# Altium schematic symbol library pwr_switching_boost.SchLib: 16 symbols
Pins are listed as number, name and electrical type; pins without a type are passive.

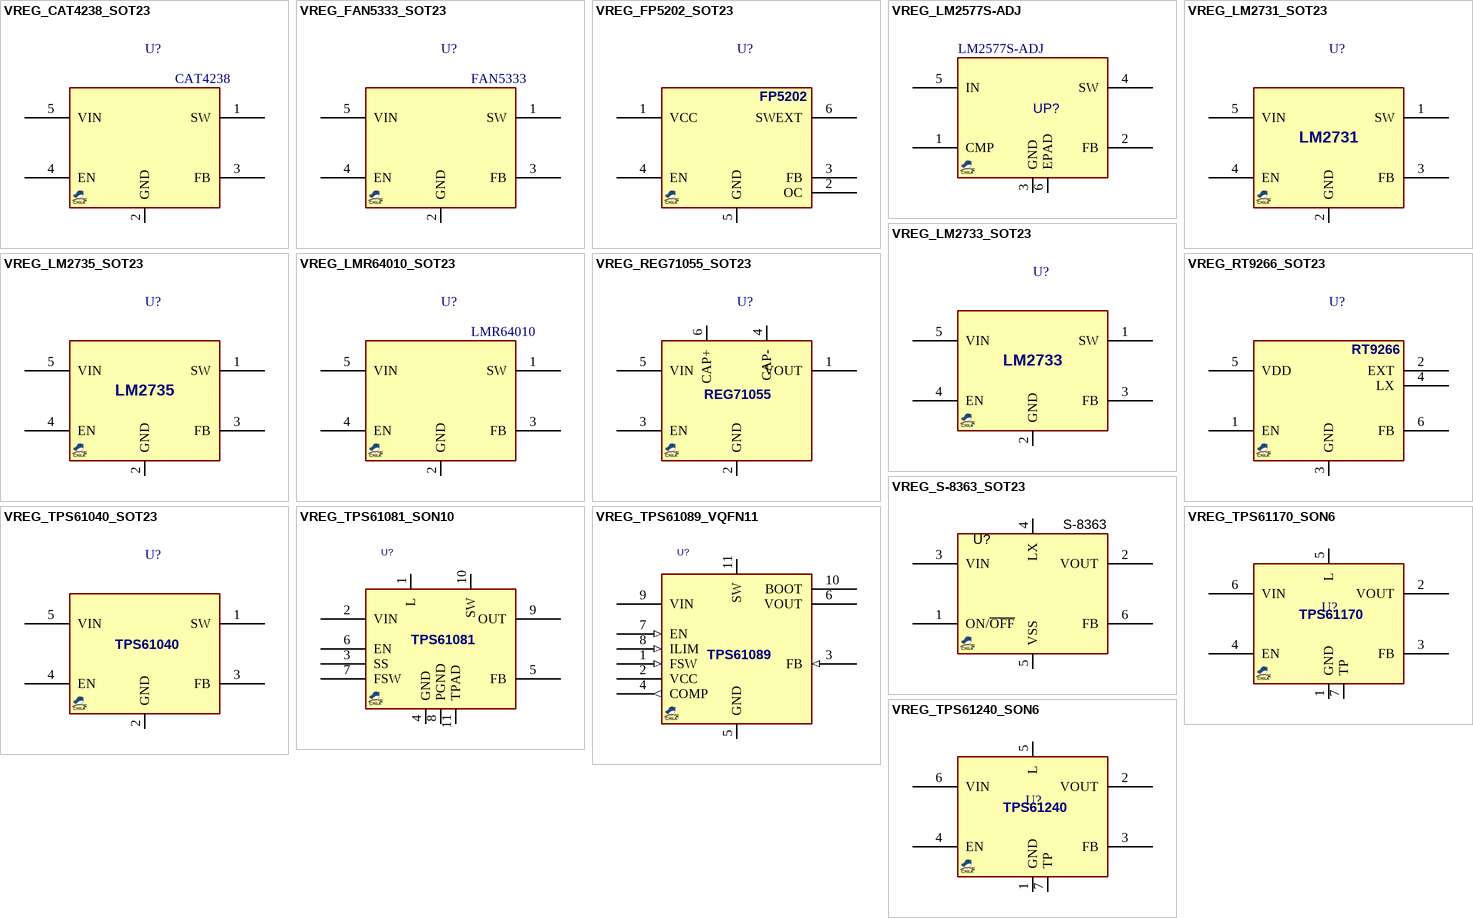
[diagram p0: symbols VREG_CAT4238_SOT23 to VREG_TPS61240_SON6]

## VREG_CAT4238_SOT23
designator U?, comment CAT4238
REG, Switching, Boost, 0.04A, ADJ, 1MHz, SOT-23-5; MANF_P#: CAT4238TD; MANF: ON; PARAM: 0.04A, ADJ; PARAM2: 1MHz; VALUE: CAT4238
footprint SOT23_5 (SOT-23-5, SOT25, SOT-25, DBV(R-PDSO-G5), TSOT23-5, SC-74A, SOT23-5, S5-T (LINEAR), MO-178AA, MO-193AB(JEDEC), MF05A (NS), TSOP-6(ON), UJ-5 (AD))
pins: 1 SW (hiz), 2 GND (hiz), 3 FB (hiz), 4 EN (hiz), 5 VIN (hiz)

## VREG_FAN5333_SOT23
designator U?, comment FAN5333
REG, Switching, Boost, 1A, ADJ, 1.8MHz, SOT-23-5; PARAM: 1A, ADJ; MANF: FAIRCHILD; PARAM2: 1.8MHz; MANF_P#: FAN5333; VALUE: FAN5333
footprint SOT23_5 (SOT-23-5, SOT25, SOT-25, DBV(R-PDSO-G5), TSOT23-5, SC-74A, SOT23-5, S5-T (LINEAR), MO-178AA, MO-193AB(JEDEC), MF05A (NS), TSOP-6(ON), UJ-5 (AD))
pins: 1 SW (hiz), 2 GND (hiz), 3 FB (hiz), 4 EN (hiz), 5 VIN (hiz)

## VREG_FP5202_SOT23
designator U?, comment FP5202  (value not drawn)
REG, Switching, Boost, 550kHz, 2.4~5.5v, SOT-23-6; MANF_P#: FP5202LR-G1; MANF: FeelingTech; PARAM: 550kHz; PARAM2: 2.4~5.5v; PRICE: 0.15$; VALUE: FP5202
footprint SOT23_6 (SOT-23-6, DDC, DBV, MICRO6, SOT-26, SOT457, SuperSOT6, TSOP-6, HMC313, TSOT, 1.5x3mm, Pitch 0.65mm, CA531, MO-178AB, MO-193AA)
pins: 1 VCC (hiz), 2 OC (hiz), 3 FB (hiz), 4 EN (hiz), 5 GND (hiz), 6 SWEXT (hiz)

## VREG_LM2577S-ADJ
designator UP?, comment LM2577S-ADJ
REG, Switching, Boost, 3A, ADJ, 52KHz, TO-220; MANF: TI, ON; PARAM: 3A, ADJ; DESC: REG, Switching, Buck, 3A, ADJ, 52KHz, TO-220; PARAM2: 52KHz, 40VIN; ASSEMBLY: ASSEMBLY; PRICE: PRICE; MANF_P#: LM2577S-ADJ; VALUE: LM2577S-ADJ
footprint D2PAK_5 (TO-263-5L, D2PAK-5, DDPAK, FMG170_5_S1000)
pins: 1 CMP, 2 FB, 3 GND (power), 4 SW (power), 5 IN (power), 6 EPAD

## VREG_LM2731_SOT23
designator U?, comment LM2731  (value not drawn)
REG, Switching, Boost, 1.8A, ADJ, 1.6MHz, SOT-23-5; PARAM2: 1.6MHz, 2.7~14VIN; MANF_P#: LM2731XMF; MANF: TI; PARAM: 1.8A, ADJ; PRICE: 2$; VALUE: LM2731
footprint SOT23_5 (SOT-23-5, SOT25, SOT-25, DBV(R-PDSO-G5), TSOT23-5, SC-74A, SOT23-5, S5-T (LINEAR), MO-178AA, MO-193AB(JEDEC), MF05A (NS), TSOP-6(ON), UJ-5 (AD))
pins: 1 SW (hiz), 2 GND (hiz), 3 FB (hiz), 4 EN (hiz), 5 VIN (hiz)

## VREG_LM2733_SOT23
designator U?, comment LM2733  (value not drawn)
REG, Switching, Boost, 1A, ADJ, 1.6MHz, SOT-23-5; PARAM: 1A, ADJ; PARAM2: 1.6MHz, 2.2~12VIN; MANF_P#: LM2733XMF; MANF: TI; PRICE: 1.8$; VALUE: LM2733
footprint SOT23_5 (SOT-23-5, SOT25, SOT-25, DBV(R-PDSO-G5), TSOT23-5, SC-74A, SOT23-5, S5-T (LINEAR), MO-178AA, MO-193AB(JEDEC), MF05A (NS), TSOP-6(ON), UJ-5 (AD))
pins: 1 SW (hiz), 2 GND (hiz), 3 FB (hiz), 4 EN (hiz), 5 VIN (hiz)

## VREG_LM2735_SOT23
designator U?, comment LM2735  (value not drawn)
REG, Switching, Boost, 2.1A, ADJ, 1.6MHz, SOT-23-5; PARAM: 2.1A, ADJ 3~24VOUT; PARAM2: 1.6MHz, 2.7~5.5VIN; MANF_P#: LM2735XMF; MANF: TI; PRICE: 2.2$; VALUE: LM2735
footprint SOT23_5 (SOT-23-5, SOT25, SOT-25, DBV(R-PDSO-G5), TSOT23-5, SC-74A, SOT23-5, S5-T (LINEAR), MO-178AA, MO-193AB(JEDEC), MF05A (NS), TSOP-6(ON), UJ-5 (AD))
pins: 1 SW (hiz), 2 GND (hiz), 3 FB (hiz), 4 EN (hiz), 5 VIN (hiz)

## VREG_LMR64010_SOT23
designator U?, comment LMR64010
REG, Switching, Boost, 1A, ADJ, 1.6MHz, SOT-23-5; PARAM: 1.8A, ADJ; PARAM2: 1.6MHz, 2.7~14VIN; MANF_P#: LMR64010XMF; MANF: TI; VALUE: LMR64010
footprint SOT23_5 (SOT-23-5, SOT25, SOT-25, DBV(R-PDSO-G5), TSOT23-5, SC-74A, SOT23-5, S5-T (LINEAR), MO-178AA, MO-193AB(JEDEC), MF05A (NS), TSOP-6(ON), UJ-5 (AD))
pins: 1 SW (hiz), 2 GND (hiz), 3 FB (hiz), 4 EN (hiz), 5 VIN (hiz)

## VREG_REG71055_SOT23
designator U?, comment REG71055  (value not drawn)
REG, Switching, Boost, 0.03A, ADJ, 1MHz, SOT-23-5; PARAM: 0.03A, 1MHz; PARAM2: 3~5.5VCC, 5.5VOUT; MANF_P#: REG71055DDC; MANF: Texas Instruments; PRICE: 1$; VALUE: REG71055
footprint SOT23_6 (SOT-23-6, DDC, DBV, MICRO6, SOT-26, SOT457, SuperSOT6, TSOP-6, HMC313, MO-178AB, MO-193AA, TSOT)
pins: 1 VOUT (hiz), 2 GND (hiz), 3 EN (hiz), 4 CAP-, 5 VIN (hiz), 6 CAP+

## VREG_RT9266_SOT23
designator U?, comment RT9266  (value not drawn)
REG, Switching, Boost, 0.1A, 450kHz, 2~6v, SOT-23-6; PARAM2: 2~6v, 1v Startup; MANF_P#: RT9266GE; MANF: Richtek; PARAM: 0.1A, 450kHz; PRICE: 0.15$; VALUE: RT9266
footprint SOT23_6 (SOT-23-6, DDC, DBV, MICRO6, SOT-26, SOT457, SuperSOT6, TSOP-6, HMC313, TSOT, 1.5x3mm, Pitch 0.65mm, CA531, MO-178AB, MO-193AA)
pins: 1 EN (hiz), 2 EXT (hiz), 3 GND (hiz), 4 LX (hiz), 5 VDD (hiz), 6 FB (hiz)

## VREG_S-8363_SOT23
designator U?, comment S-8363
REG, Switching, Boost, 0.3A, ADJ, 1.2MHz, SOT-23-6; MANF: Seiko Instruments Inc.; MANF_P#: S-8363B-M6; PARAM2: 1.2MHz, 0.9~4.5VIN; PARAM: 0.3A, ADJ; VALUE: S-8363
footprint SOT23_6 (SOT-23-6, MICRO6, SOT-26, SOT457, SuperSOT6, TSOP-6, HMC313, MO-178AB, MO-193AA, TSOT)
pins: 1 ON/~{OFF}, 2 VOUT, 3 VIN (power), 4 LX, 5 VSS (power), 6 FB (power)

## VREG_TPS61040_SOT23
designator U?, comment TPS61040  (value not drawn)
REG, Switching, Boost, 0.4A, ADJ, 1MHz, SOT-23-5; PARAM2: 1MHz, 1.8~6VIN; MANF_P#: TPS61040DBVR; MANF: TI; PARAM: 0.4A, ADJ; VALUE: TPS61040
footprint SOT23_5 (SOT-23-5, SOT25, SOT-25, DBV(R-PDSO-G5), TSOT23-5, SC-74A, SOT23-5, S5-T (LINEAR), MO-178AA, MO-193AB(JEDEC), MF05A (NS), TSOP-6(ON), UJ-5 (AD))
pins: 1 SW (hiz), 2 GND (hiz), 3 FB (hiz), 4 EN (hiz), 5 VIN (hiz)

## VREG_TPS61081_SON10
designator U?, comment TPS61081  (value not drawn)
REG, Switching, Boost WLED driver, 1.3A, ADJ, 1.2MHz, SON-10; MANF: TI; DESC: Regulator WLED Driver 1.3A; PARAM2: 1.2MHz, 2.5~6VIN; MANF_P#: TPS61081DRC; PRICE: 1.11; PARAM: 1.3A, ADJ; VALUE: TPS61081
footprint SON50_10T_3X3 (DRC SON(TI), 10 TDFN (MAXIM), 3X3mm, Pitch: 0.5mm with thermal pad)
pins: 1 L, 2 VIN, 3 SS, 4 GND, 5 FB, 6 EN, 7 FSW, 8 PGND, 9 OUT, 10 SW, 11 TPAD

## VREG_TPS61089_VQFN11
designator U?, comment TPS61089  (value not drawn)
REG, Switching, Boost7, 7A, ADJ, 0.2~2.2MHz, VQFN11; MANF: TI; PARAM: 7A, ADJ; PARAM2: 0.2~2.2MHz, 2.7~12VIN; MANF_P#: TPS61089RNR; PRICE: 1000: $1.31; VALUE: TPS61089
footprint QFN50_11_2025 (VQFN11, RNR, 2x2.5x1mm, pitch 0.5mm)
pins: 1 FSW (in), 2 VCC (power), 3 FB (in), 4 COMP (out), 5 GND (power), 6 VOUT (power), 7 EN (in), 8 ILIM (in), 9 VIN (power), 10 BOOT (power), 11 SW (power)

## VREG_TPS61170_SON6
designator U?, comment TPS61170  (value not drawn)
REG, Switching, Boost, 1.2A, ADJ, 1.2MHz, SON-6; MANF: TI; PARAM2: 1.2MHz, 3~18VIN; MANF_P#: TPS61170DRV; PARAM: 1.2A, ADJ; VALUE: TPS61170
footprint SON65_6T_2X2 (DRV PWSON DFN6 Pitch: 0.65mm 2x2x1.1mm)
pins: 1 GND (power) "Ground", 2 VOUT (power) "Output", 3 FB "Feedback input", 4 EN "Enable", 5 L (power) "Boost and rectifying switch input", 6 VIN (power) "Supply voltage", 7 TP (power) "Exposed thermal pad"

## VREG_TPS61240_SON6
designator U?, comment TPS61240  (value not drawn)
REG, Switching, Boost, 0.4A, ADJ, 4MHz, SON-6; MANF: TI; PARAM2: 4MHz, 2.3~5.5VIN; MANF_P#: TPS61240DRV; PARAM: 0.4A, ADJ; VALUE: TPS61240
footprint SON65_6T_2X2 (DRV PWSON DFN6 Pitch: 0.65mm 2x2x1.1mm)
pins: 1 GND (power) "Ground", 2 VOUT (power) "Output", 3 FB "Feedback input", 4 EN "Enable", 5 L (power) "Boost and rectifying switch input", 6 VIN (power) "Supply voltage", 7 TP (power) "Exposed thermal pad"